# Altium footprint library IPL1.PcbLib: 1 footprints
Each footprint in its own frame and in the unit in brackets; x right, y up, seen from the top. Pads: shape width x height; smd on the part's side, far side on the other; paste and mask are expansions set on the pad; w line width, h text height; cw(c..) or ccw(c..) is an arc to the next point about the centre after c.
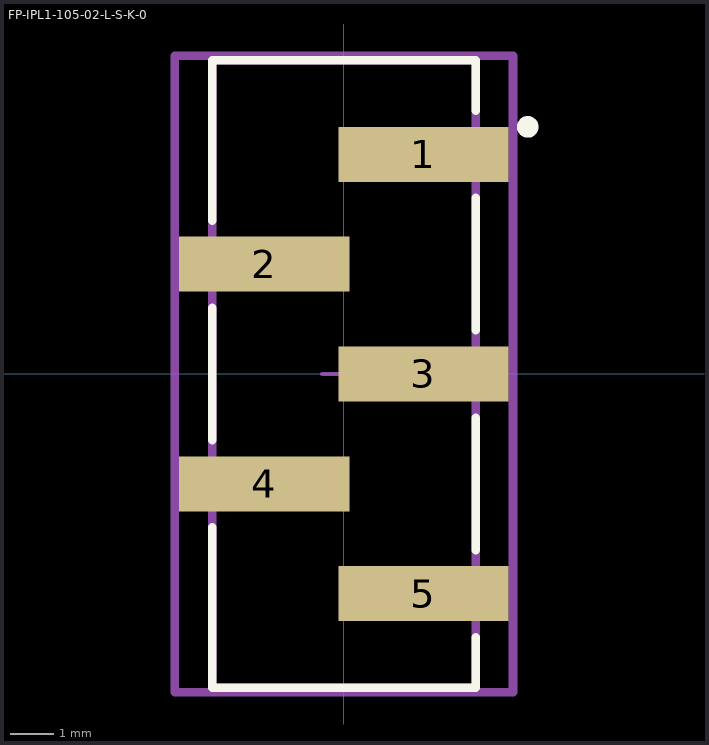
[diagram p0: the footprint, top view; thin cyan lines are the x and y axes]

## FP-IPL1-105-02-L-S-K-0 [mm]
pads (5):
  rect 3.94x1.27 smd paste+0 mask+0: 1(1.84,5.08) 2(-1.84,2.54) 3(1.84,0) 4(-1.84,-2.54) 5(1.84,-5.08)
Top Overlay:
  circle w0.25: c4.25,5.715 r0.125
  lines w0.2: -3.05,-3.55 -3.05,-7.26 3.05,-7.26 3.05,-6.09 ; -3.05,-1.53 -3.05,1.53 ; -3.05,3.55 -3.05,7.26 3.05,7.26 3.05,6.09 ; 3.05,-4.07 3.05,-1.01 ; 3.05,1.01 3.05,4.07
Mechanical 5:
  lines w0.2: -3.91,-7.36 3.91,-7.36 3.91,7.36 -3.91,7.36 -3.91,-7.36
  text ".Designator" at 0,0.188 h1
Mechanical 13:
  lines w0.2: -3.05,-7.26 3.05,-7.26 3.05,7.26 -3.05,7.26 -3.05,-7.26
Mechanical 15:
  lines w0.2: -3.91,-7.36 3.91,-7.36 3.91,7.36 -3.91,7.36 -3.91,-7.36
Mechanical 16:
  lines w0.1: -0.5,0 0.5,0 ; 0,-0.5 0,0.5
3D body "Conn_Samtec_IPL1-105-02-L-S-K_eec.STEP": height 0.25, standoff 0, extent -3.91,-7.36 3.91,7.36